# Altium integrated library miStepper.IntLib: 1 symbol
Pins are listed as number, name and electrical type; pins without a type are passive.

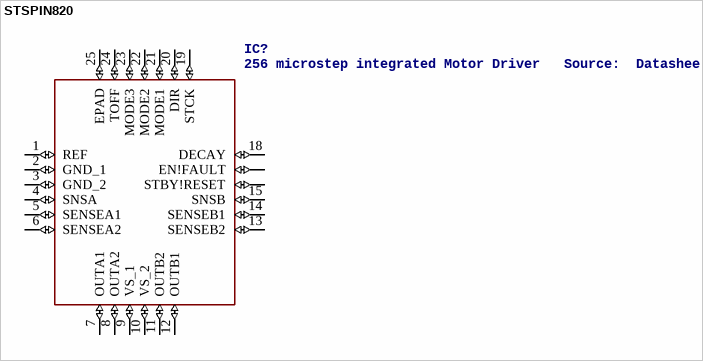
[diagram p0: symbol STSPIN820]

## STSPIN820
designator IC?, comment 256 microstep integrated Motor Driver   Source:  Datasheet
Manufacturer_Name: STMicroelectronics; Manufacturer_Part_Number: STSPIN820; Mouser_Part_Number: 511-STSPIN820; Mouser_Price-Stock: https://www.mouser.com/Search/Refine.aspx?Keyword=511-STSPIN820; RS_Part_Number: 1646997P; RS_Price-Stock: http://uk.rs-online.com/web/p/products/1646997P; Description: 256 microstep integrated Motor Driver; Height: 1.1mm
footprint QFN50P400X400X110-25N
pins: 1 REF (io), 2 GND_1 (io), 3 GND_2 (io), 4 SNSA (io), 5 SENSEA1 (io), 6 SENSEA2 (io), 7 OUTA1 (io), 8 OUTA2 (io), 9 VS_1 (io), 10 VS_2 (io), 11 OUTB2 (io), 12 OUTB1 (io), 13 SENSEB2 (io), 14 SENSEB1 (io), 15 SNSB (io), 18 DECAY (io), 19 STCK (io), 20 DIR (io), 21 MODE1 (io), 22 MODE2 (io), 23 MODE3 (io), 24 TOFF (io), 25 EPAD (io), ?1 EN!FAULT (io), ?2 STBY!RESET (io)